# EAGLE library part CSD17309Q3 (library CSD17309Q3)
30V, N ch NexFET MOSFET, single SON3x3, 6.3mOhm Source: Datasheet <http://www.ti.com/lit/gpn/csd17309q3>
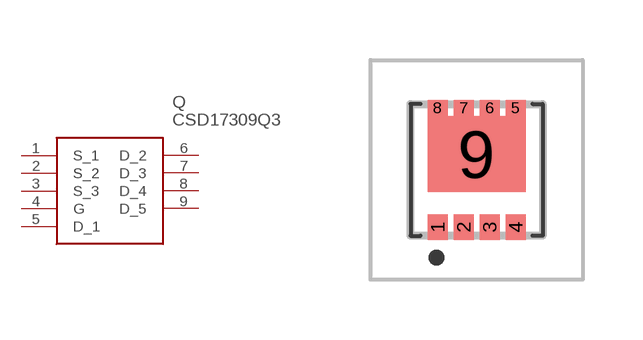
[diagram p0: symbol with the pads of CSD17309Q3; footprint CSD17309Q3]

Designator prefix Q

## CSD17309Q3 (Description: 30V, N ch NexFET MOSFET, single SON3x3, 6.3mOhm; Height: 1mm; Manufacturer_Name: Texas Instruments; Manufacturer_Part_Number: CSD17309Q3; Mouser_Part_Number: 595-CSD17309Q3; Mouser_Price-Stock: https://www.mouser.co.uk/ProductDetail/Texas-Instruments/CSD17309Q3?qs=BmtUOLWBNQpJCCc0M%2FZkzw%3D%3D)  [CSD17309Q3]
1  S_1
2  S_2
3  S_3
4  G
5  D_1
6  D_2
7  D_3
8  D_4
9  D_5

## Footprint CSD17309Q3 (pad centres in mm)
CSD17309Q3-2
smd 0.5 x 0.63: 1 -0.975,-1.435; 2 -0.325,-1.435; 3 0.325,-1.435; 4 0.975,-1.435
smd 0.5 x 0.41: 5 0.975,1.545; 6 0.325,1.545; 7 -0.325,1.545; 8 -0.975,1.545
smd 2.45 x 1.9: 9 0,0.39